# Altium footprint library PCB - CRYSTALS - ABRACON ABS25.PCBLIB: 1 footprints
Each footprint in its own frame and in the unit in brackets; x right, y up, seen from the top. Pads: shape width x height; smd on the part's side, far side on the other; paste and mask are expansions set on the pad; w line width, h text height; cw(c..) or ccw(c..) is an arc to the next point about the centre after c.
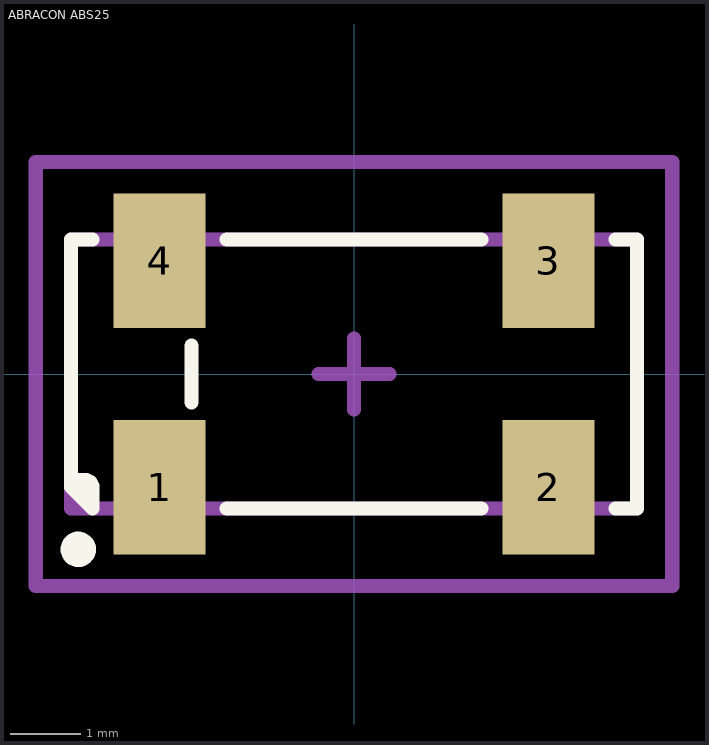
[diagram p0: the footprint, top view; thin cyan lines are the x and y axes]

## ABRACON ABS25 [mm]
height 2.5
pads (4):
  rect 1.3x1.9 smd: 1(-2.75,-1.6) 2(2.75,-1.6) 3(2.75,1.6) 4(-2.75,1.6)
Top Overlay:
  circle w0.25: c-3.9,-2.48 r0.125
  region: -4,-1.5 -4,-1.6 -3.7,-1.9 -3.7,-1.6 -3.8,-1.5
  lines w0.2: -3.7,1.9 -4,1.9 -4,0 -4,-1.6 ; -2.3,-0.4 -2.3,0.4 ; -1.8,-1.9 1.8,-1.9 ; -1.8,1.9 1.8,1.9 ; 3.7,-1.9 4,-1.9 4,0 4,1.9 3.7,1.9 ; -4,-1.6 cw(c-3.9,-1.6) -3.9,-1.5 -3.8,-1.5 cw(c-3.8,-1.6) -3.7,-1.6 -3.7,-1.9 -4,-1.6
Mechanical 1:
  lines w0.2: -4,-1.9 -4,1.9 4,1.9 4,-1.9 -4,-1.9
Mechanical 15:
  lines w0.2: -4.5,-3 -4.5,3 4.5,3 4.5,-3 -4.5,-3
Mechanical 2 (Mech9):
  lines w0.2: -0.5,0 0.5,0 ; 0,-0.5 0,0.5
3D body "Abracon ABS25.STEP": height 2.5, standoff 0, extent -4,-1.9 4,1.9